# Altium integrated library Integrated_Library1.IntLib: 1 symbol
Pins are listed as number, name and electrical type; pins without a type are passive.

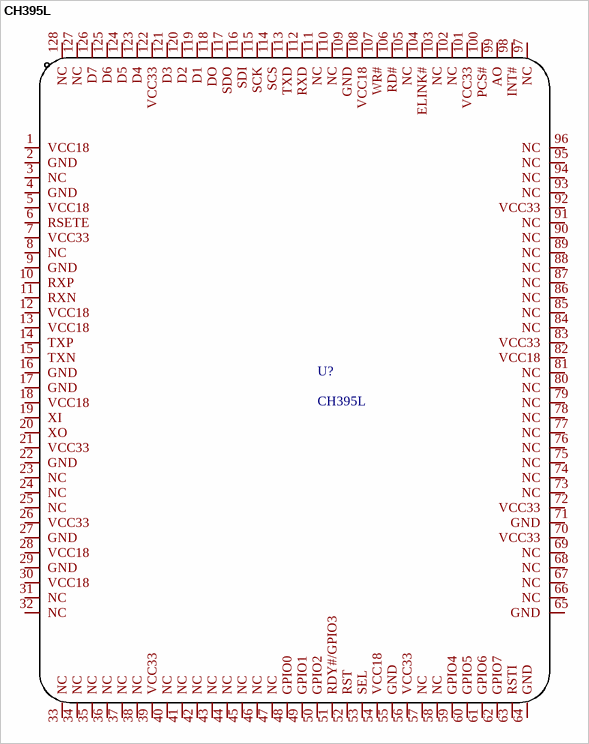
[diagram p0: symbol CH395L]

## CH395L
designator U?
footprint CH395L
pins: 1 VCC18, 2 GND, 3 NC, 4 GND, 5 VCC18, 6 RSETE, 7 VCC33, 8 NC, 9 GND, 10 RXP, 11 RXN, 12 VCC18, 13 VCC18, 14 TXP, 15 TXN, 16 GND, 17 GND, 18 VCC18, 19 XI, 20 XO, 21 VCC33, 22 GND, 23 NC, 24 NC, 25 NC, 26 VCC33, 27 GND, 28 VCC18, 29 GND, 30 VCC18, 31 NC, 32 NC, 33 NC, 34 NC, 35 NC, 36 NC, 37 NC, 38 NC, 39 VCC33, 40 NC, 41 NC, 42 NC, 43 NC, 44 NC, 45 NC, 46 NC, 47 NC, 48 GPIO0, 49 GPIO1, 50 GPIO2, 51 RDY#/GPIO3, 52 RST, 53 SEL, 54 VCC18, 55 GND, 56 VCC33, 57 NC, 58 NC, 59 GPIO4, 60 GPIO5, 61 GPIO6, 62 GPIO7, 63 RSTI, 64 GND, 65 GND, 66 NC, 67 NC, 68 NC, 69 NC, 70 VCC33, 71 GND, 72 VCC33, 73 NC, 74 NC, 75 NC, 76 NC, 77 NC, 78 NC, 79 NC, 80 NC, 81 NC, 82 VCC18, 83 VCC33, 84 NC, 85 NC, 86 NC, 87 NC, 88 NC, 89 NC, 90 NC, 91 NC, 92 VCC33, 93 NC, 94 NC, 95 NC, 96 NC, 97 NC, 98 INT#, 99 AO, 100 PCS#, 101 VCC33, 102 NC, 103 NC, 104 ELINK#, 105 NC, 106 RD#, 107 WR#, 108 VCC18, 109 GND, 110 NC, 111 NC, 112 RXD, 113 TXD, 114 SCS, 115 SCK, 116 SDI, 117 SDO, 118 DO, 119 D1, 120 D2, 121 D3, 122 VCC33, 123 D4, 124 D5, 125 D6, 126 D7, 127 NC, 128 NC